# Altium footprint library 索腾保密柜ZCM_V1_HJ.PcbLib: 58 footprints (part 4 of 4)
Each footprint in its own frame and in the unit in brackets; x right, y up, seen from the top. Pads: shape width x height; smd on the part's side, far side on the other; paste and mask are expansions set on the pad; w line width, h text height; cw(c..) or ccw(c..) is an arc to the next point about the centre after c.
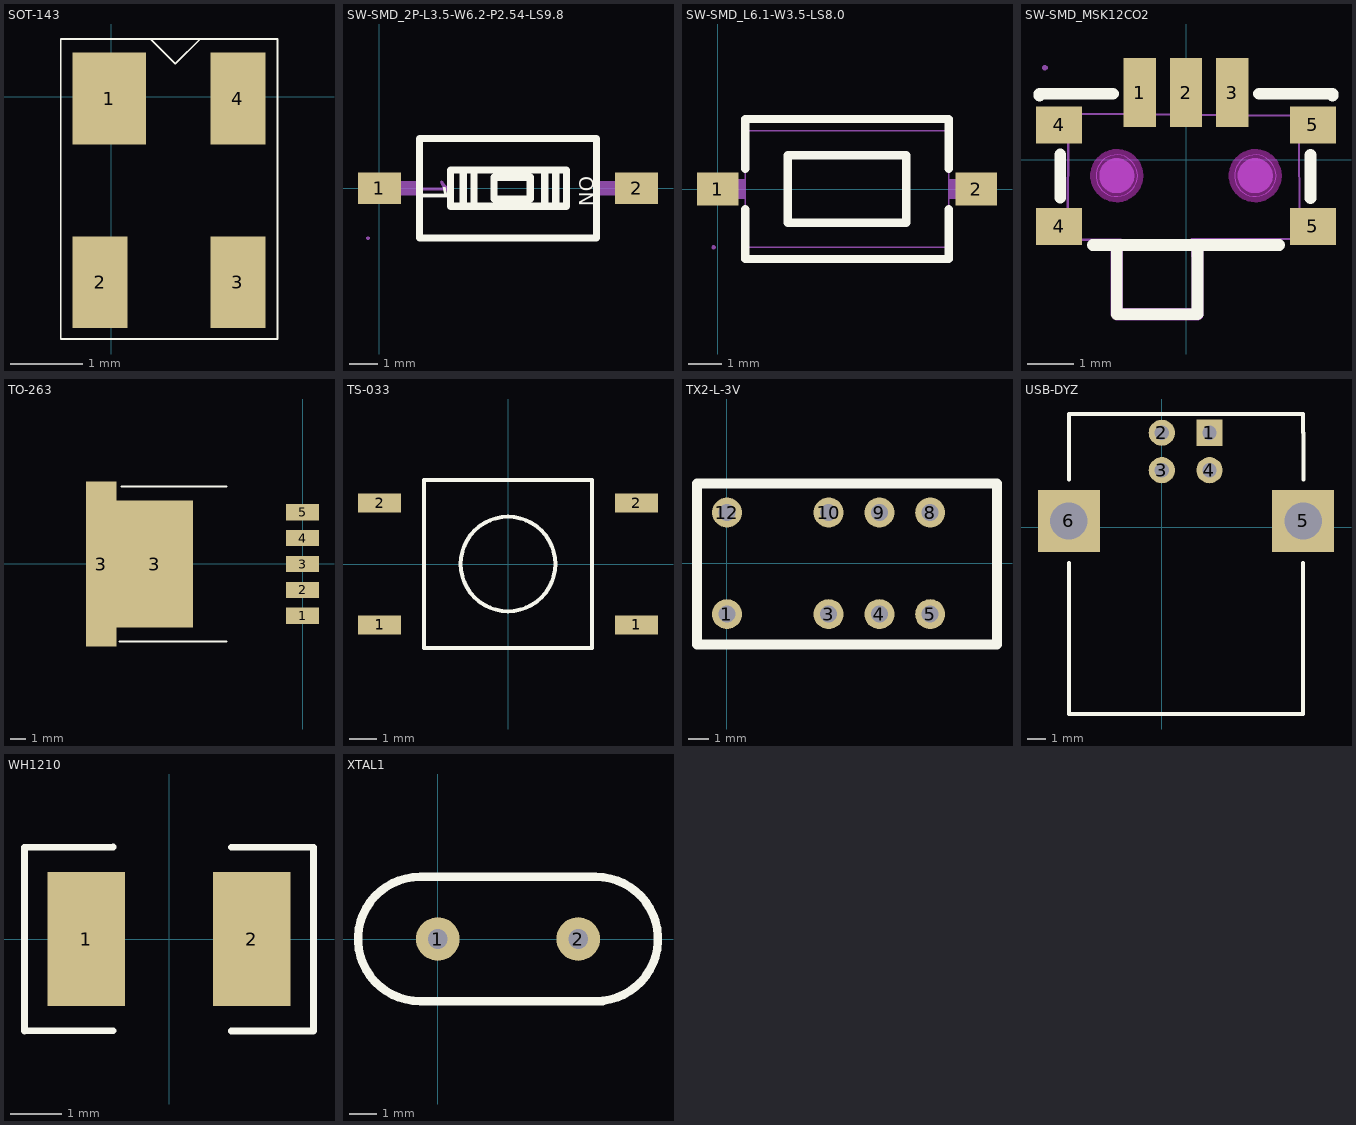
[diagram p3: the footprints below, top view; thin cyan lines are the x and y axes]

## SOT-143 [mil]
height 19.68
pads (4):
  rect 40x50 smd: 1(-1.09,-0.96)
  rect 30x50 smd: 2(-6.09,-100.96) 3(68.91,-100.96) 4(68.91,-0.96)
Top Overlay:
  lines w1: 21.55,31.4 34.91,18.04 48.3,31.42 ; -27.56,-131.89 -27.56,31.5 90.55,31.5 90.55,-131.89 -27.56,-131.89

## SW-SMD_2P-L3.5-W6.2-P2.54-LS9.8 [mm]
pads (2):
  rect 1.5x1.1 smd: 1(0,0) 2(9,0)
Top Overlay:
  lines w0.254: 2.93,-0.635 2.93,0.635 ; 3.311,-0.635 3.311,0.635 ; 5.788,-0.635 5.788,0.635 ; 6.169,-0.635 6.169,0.635 ; 1.4,-1.74 7.6,-1.74 7.6,1.74 1.4,1.74 1.4,-1.74 ; 2.486,-0.635 2.486,0.635 6.55,0.635 6.55,-0.635 2.486,-0.635 ; 4.01,-0.381 4.01,0.381 5.28,0.381 5.28,-0.381 4.01,-0.381
  text "1" at 1.37,0.19 h1
  text "ON" at 7,0.41 h0.5
Mechanical 6:
  region: 2.185,0.26 2.165,0.26 2.125,0.22 2.145,0.15 2.185,0.08 2.245,0.02 1.425,0.02 1.415,0.03 1.395,0.03 1.365,0 1.365,-0.04 1.375,-0.07 1.405,-0.08 2.385,-0.08 2.395,-0.08 2.41,-0.075 2.42,-0.065 2.43,-0.055 2.435,-0.03 2.425,-0.01 2.405,0.02 2.375,0.05 2.285,0.14 2.225,0.24
Mechanical 15:
  region: -0.4,-0.25 -0.4,0.25 0.1,0.25 0.1,-0.25
  region: 0.09,-0.25 0.09,0.25 1.41,0.25 1.41,-0.25
  region: 8.9,-0.25 8.9,0.25 9.4,0.25 9.4,-0.25
  region: 7.59,-0.25 7.59,0.25 8.91,0.25 8.91,-0.25
  region: -0.34,-1.75 -0.341,-1.726 -0.376,-1.692 -0.424,-1.692 -0.459,-1.726 -0.46,-1.75 -0.459,-1.774 -0.424,-1.808 -0.376,-1.808 -0.341,-1.774
  lines w0.051: 1.4,-1.75 7.6,-1.75 7.6,1.75 1.4,1.75 1.4,-1.75

## SW-SMD_L6.1-W3.5-LS8.0 [mm]
pads (2):
  rect 1.25x1 smd: 1(0,0) 2(7.75,0)
Top Overlay:
  lines w0.254: 0.825,-0.613 0.825,-2.1 6.925,-2.1 6.925,-0.613 ; 0.825,0.613 0.825,2.1 6.925,2.1 6.925,0.613 ; 2.097,-1.016 5.653,-1.016 5.653,1.016 2.097,1.016 2.097,-1.016
Mechanical 15:
  region: -0.065,-1.75 -0.065,-1.725 -0.1,-1.69 -0.15,-1.69 -0.185,-1.725 -0.185,-1.75 -0.185,-1.775 -0.15,-1.81 -0.1,-1.81 -0.065,-1.775
  region: 7.875,0.3 7.875,-0.3 7.275,-0.3 7.275,0.3
  region: 0.475,0.3 0.475,-0.3 -0.125,-0.3 -0.125,0.3
  region: -0.125,0.3 -0.125,-0.3 0.83,-0.3 0.83,0.3
  region: 7.875,0.3 7.875,-0.3 6.92,-0.3 6.92,0.3
  lines w0.051: 0.825,-1.75 0.825,1.75 6.925,1.75 6.925,-1.75 0.825,-1.75

## SW-SMD_MSK12CO2 [mm]
pads (7):
  rect 0.7x1.5 smd: 1(-1,1.45) 2(0,1.45) 3(1,1.45)
  rect 1x0.8 smd: 4(-2.75,-1.45) 4(-2.75,0.75) 5(2.75,-1.45) 5(2.75,0.75)
Top Overlay:
  lines w0.254: -3.175,1.382 -3.175,1.427 -1.582,1.427 ; -2.723,-0.828 -2.723,0.11 ; -2.019,-1.85 -1.638,-1.85 0.25,-1.85 ; -1.5,-1.9 -1.5,-3.35 0.25,-3.35 0.25,-1.85 ; 1.581,1.428 3.175,1.428 3.175,1.381 ; 2.019,-1.85 0.25,-1.85 ; 2.695,-0.838 2.695,0.1
Keep-Out Layer:
  board cut-out: 1.95,-0.35 1.949,-0.261 1.88,-0.097 1.753,0.028 1.589,0.095 1.411,0.095 1.247,0.028 1.12,-0.097 1.051,-0.261 1.05,-0.35 1.051,-0.439 1.12,-0.603 1.247,-0.728 1.411,-0.795 1.589,-0.795 1.753,-0.728 1.88,-0.603 1.949,-0.439
  board cut-out: -1.05,-0.35 -1.051,-0.261 -1.12,-0.097 -1.247,0.028 -1.411,0.095 -1.589,0.095 -1.753,0.028 -1.88,-0.097 -1.949,-0.261 -1.95,-0.35 -1.949,-0.439 -1.88,-0.603 -1.753,-0.728 -1.589,-0.795 -1.411,-0.795 -1.247,-0.728 -1.12,-0.603 -1.051,-0.439
Keep-Out Layer:
  circle w0.254: c1.5,-0.35 r0.45
  circle w0.025: c1.5,-0.35 r0.45
  circle w0.254: c-1.5,-0.35 r0.45
  circle w0.025: c-1.5,-0.35 r0.45
Mechanical 1:
  circle w0.025: c1.5,-0.35 r0.45
  circle w0.025: c-1.5,-0.35 r0.45
Mechanical 6:
  circle w0.38: c-1.5,-0.35 r0.19
  circle w0.38: c1.5,-0.35 r0.19
  region: 0.377,-1.85 0.377,-3.35 0.377,-3.375 0.358,-3.422 0.322,-3.458 0.275,-3.477 0.25,-3.477 -1.5,-3.477 -1.525,-3.477 -1.572,-3.458 -1.608,-3.422 -1.627,-3.375 -1.627,-3.35 -1.627,-1.9 -1.627,-1.847 -1.553,-1.773 -1.447,-1.773 -1.373,-1.847 -1.373,-1.9 -1.373,-3.223 0.123,-3.223 0.123,-1.85 0.123,-1.797 0.197,-1.723 0.303,-1.723 0.377,-1.797
Mechanical 15:
  region: -1.2,1.989 -0.8,1.989 -0.8,0.8 -1.2,0.8
  region: -0.2,1.989 0.2,1.989 0.2,0.8 -0.2,0.8
  region: 0.8,1.989 1.2,1.989 1.2,0.8 0.8,0.8
  region: 2.96,0.55 2.41,0.55 2.41,0.95 2.96,0.95
  region: 2.96,-1.65 2.41,-1.65 2.41,-1.25 2.96,-1.25
  region: -3.06,0.95 -2.51,0.95 -2.51,0.55 -3.06,0.55
  region: -3.06,-1.25 -2.51,-1.25 -2.51,-1.65 -3.06,-1.65
  region: -3,1.989 -3.001,2.013 -3.036,2.047 -3.085,2.047 -3.12,2.013 -3.12,1.989 -3.12,1.964 -3.085,1.93 -3.036,1.93 -3.001,1.964
  lines w0.051: -2.56,-1.741 -2.55,0.989 2.45,0.95 2.46,-1.721 0.12,-1.721 0.13,-1.731 0.15,-3.25 0.1,-3.251 -1.42,-3.251 -1.41,-3.241 -1.41,-1.741 -2.56,-1.741

## TO-263 [mm]
height 1.5
pads (7):
  rect 2.16x1.07 smd: 1(-0.025,-3.404) 2(-0.025,-1.704) 3(-0.025,-0.004) 4(-0.025,1.696) 5(-0.025,3.396)
  rect 2x10.8 smd: 3(-13.195,-0.004)
  rect 5x8.3 smd: 3(-9.695,-0.004)
Top Overlay:
  lines w0.127: -12.014,-5.08 -5,-5.08 ; -11.887,5.08 -5,5.08

## TS-033 [mm]
height 3.5
pads (4):
  rect 1.6x0.7 smd: 1(-4.75,-2.25) 1(4.75,-2.25) 2(-4.75,2.25) 2(4.75,2.25)
Top Overlay:
  circle w0.15: c0,0 r1.75
  lines w0.15: -3.1,-3.1 -3.1,3.1 3.1,3.1 3.1,-3.1 -3.1,-3.1

## TX2-L-3V [mm]
pads (8):
  round 1.5 hole 0.85: 1(0,-2.54) 3(5.08,-2.54) 4(7.62,-2.54) 5(10.16,-2.54) 8(10.16,2.54) 9(7.62,2.54) 10(5.08,2.54) 12(0,2.54)
Top Overlay:
  lines w0.508: -1.5,-4.064 -1.5,4 13.5,4 13.5,-4.064 -1.5,-4.064

## USB-DYZ [mil]
height 393.7
pads (6):
  rect 55x55 hole 30: 1(100.28,198.85)
  round 55 hole 30: 2(0.28,198.86) 3(0.28,120.12) 4(100.28,120.12)
  rect 129.92x129.92 hole 78.74: 5(297.13,13.42) 6(-195,13.42)
Top Overlay:
  lines w7.87: -195,-392.09 297.13,-392.09 ; -195,-392.01 -195,-74.8 ; -195,100.43 -195,198.86 -195,238.23 -175.31,238.23 -155.63,238.23 297.13,238.23 297.13,198.86 ; 297.13,-387.99 297.13,-74.8 ; 297.99,100 297.99,198.42

## WH1210 [mm]
height 2
pads (2):
  rect 1.5x2.6 smd: 1(-1.6,0) 2(1.6,0)
Top Overlay:
  lines w0.127: -1.079,-1.778 -2.794,-1.778 -2.794,1.778 -1.079,1.778 ; 1.206,-1.778 2.794,-1.778 2.794,1.778 1.206,1.778

## XTAL1 [mil]
height 118.11
pads (2):
  round 62 hole 28: 1(0,0) 2(200,0)
Top Overlay:
  lines w12: 225,-88.58 ccw(c225,0) 225,88.58 -25,88.58 ccw(c-25,0) -25,-88.58 235,-88.58